# EAGLE library part PINHEAD_1X06 (library pinhead)
pinheader 6P
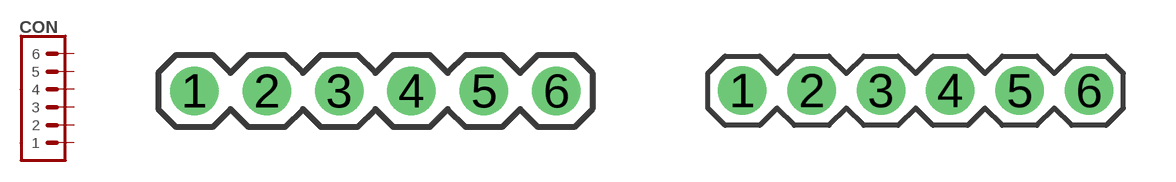
[diagram p25: symbol with the pads of PLS6; footprints PLS6, PLS2-6]

Designator prefix CON

## PINHEAD_1X06-2.54-MALE  [PLS6]
1  1  pas
2  2  pas
3  3  pas
4  4  pas
5  5  pas
6  6  pas

## PINHEAD_1X06-2-MALE  [PLS2-6]
Pads as for PLS6

## PINHEAD_1X06-2-FEMALE (DIGIKEY#: S5751-06-ND; MANF: Sullins Connector Solutions; MANF#: NPPN061BFCN-RC)  [PBS2-6]
Pads as for PLS6

## PINHEAD_1X06-2.54-FEMALE  [PBS6]
Pads as for PLS6

## PINHEAD_1X06-2.54-MALE-RA  [PLS6R-D]
Pads as for PLS6

## PINHEAD_1X06-2.54-SIDEMOUNT  [1X06-SMD-SIDEMOUNT-2.54]
Pads as for PLS6

## PINHEAD_1X06-2-MALE-RA  [1X06-PTH-2-RA]
Pads as for PLS6

## Footprint PLS6 (pad centres in mm)
3D model <https://grabcad.com/library/pls-connectors-1>
drill 1 pad 1.7: 1 -6.35,0; 2 -3.81,0; 3 -1.27,0; 4 1.27,0; 5 3.81,0; 6 6.35,0

## Footprint PLS2-6 (pad centres in mm)
3D model <https://grabcad.com/library/pls2-connectors-1>
drill 0.8 pad 1.4: 1 -5,0; 2 -3,0; 3 -1,0; 4 1,0; 5 3,0; 6 5,0

## Footprint PBS2-6 (pad centres in mm)
3D model <https://grabcad.com/library/pbs2-connectors-h6-35-1>
drill 0.8 pad 1.4: 1 -5,0; 2 -3,0; 3 -1,0; 4 1,0; 5 3,0; 6 5,0

## Footprint PBS6 (pad centres in mm)
3D model <https://grabcad.com/library/pbs-connectors-1>
drill 1 pad 1.8: 1 -6.35,0; 2 -3.81,0; 3 -1.27,0; 4 1.27,0; 5 3.81,0; 6 6.35,0

## Footprint PLS6R-D (pad centres in mm)
drill 1 pad 1.7: 1 -6.35,0; 2 -3.81,0; 3 -1.27,0; 4 1.27,0; 5 3.81,0; 6 6.35,0

## Footprint 1X06-SMD-SIDEMOUNT-2.54 (pad centres in mm)
smd 1 x 3.2: 1 -6.35,0; 2 -3.81,0; 3 -1.27,0; 4 1.27,0; 5 3.81,0; 6 6.35,0

## Footprint 1X06-PTH-2-RA (pad centres in mm)
drill 0.8 pad 1.5: 1 -5,0; 2 -3,0; 3 -1,0; 4 1,0; 5 3,0; 6 5,0